# Altium footprint library LED.PcbLib: 2 footprints
Each footprint in its own frame and in the unit in brackets; x right, y up, seen from the top. Pads: shape width x height; smd on the part's side, far side on the other; paste and mask are expansions set on the pad; w line width, h text height; cw(c..) or ccw(c..) is an arc to the next point about the centre after c.
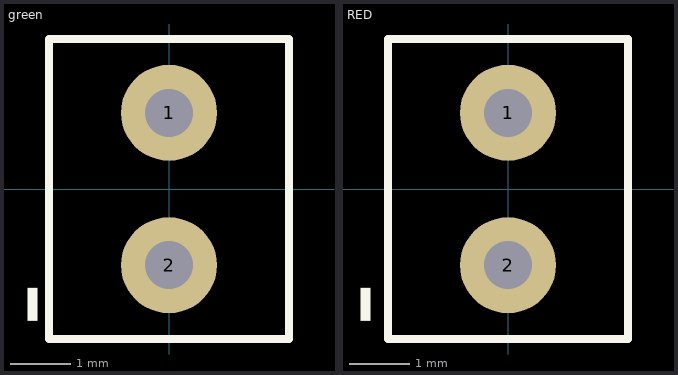
[diagram p0: the footprints below, top view; thin cyan lines are the x and y axes]

## green [mm] "LED; 2 Leads"
pads (2):
  round 1.6 hole 0.8: 1(0,1.27) 2(0,-1.27)
Top Overlay:
  lines w0.127: -2,-2.5 -2,2.5 2,2.5 2,-2.5 -2,-2.5
  text "-" at -1.7,-2.3 h1.52
3D body "CircuitWorks-GREENLED.step": height 5.38, standoff -3.17, extent -1.49,-1.954 2.002,2.034

## RED [mm] "LED; 2 Leads"
pads (2):
  round 1.6 hole 0.8: 1(0,1.27) 2(0,-1.27)
Top Overlay:
  lines w0.127: -2,-2.5 2,-2.5 2,2.5 -2,2.5 -2,-2.5
  text "-" at -1.8,-2.3 h1.52
3D body "CircuitWorks-REDLED.step": height 5.38, standoff -3.17, extent -1.49,-1.954 2.002,2.034